# EAGLE library part ESP32-S2-SAOLA-1R (library ESP32-S2-SAOLA-1R)
Check prices <https://pricing.snapeda.com/parts/ESP32-S2-SAOLA-1R/Espressif%20Systems/view-part?ref=eda>
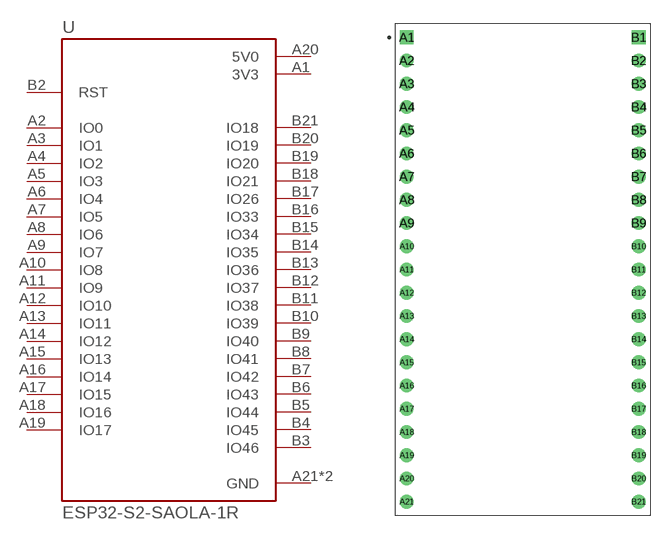
[diagram p0: symbol with the pads of XCVR_ESP32-S2-SAOLA-1R; footprint XCVR_ESP32-S2-SAOLA-1R]

Designator prefix U

## ESP32-S2-SAOLA-1R (Availability: In Stock; Description: ESP32-S2-WROVER-I series Transceiver; 802.11 b/g/n (Wi-Fi, WiFi, WLAN) Evaluation Board; MF: Espressif Systems; MP: ESP32-S2-SAOLA-1R; Package: None; Price: None; Purchase-URL: https://pricing.snapeda.com/search/part/ESP32-S2-SAOLA-1R/?ref=eda)  [XCVR_ESP32-S2-SAOLA-1R]
A1  3V3  pwr
A2  IO0
A3  IO1
A4  IO2
A5  IO3
A6  IO4
A7  IO5
A8  IO6
A9  IO7
A10  IO8
A11  IO9
A12  IO10
A13  IO11
A14  IO12
A15  IO13
A16  IO14
A17  IO15
A18  IO16
A19  IO17
A20  5V0  pwr
A21  GND  pwr
B1  GND  pwr
B2  RST  in
B3  IO46  in
B4  IO45
B5  IO44
B6  IO43
B7  IO42
B8  IO41
B9  IO40
B10  IO39
B11  IO38
B12  IO37
B13  IO36
B14  IO35
B15  IO34
B16  IO33
B17  IO26
B18  IO21
B19  IO20
B20  IO19
B21  IO18

## Footprint XCVR_ESP32-S2-SAOLA-1R (pad centres in mm)
drill 1 square: A1 -12.7,25.4; B1 12.7,25.4
drill 1: A2 -12.7,22.86; A3 -12.7,20.32; A4 -12.7,17.78; A5 -12.7,15.24; A6 -12.7,12.7; A7 -12.7,10.16; A8 -12.7,7.62; A9 -12.7,5.08; A10 -12.7,2.54; A11 -12.7,0; A12 -12.7,-2.54; A13 -12.7,-5.08; A14 -12.7,-7.62; A15 -12.7,-10.16; A16 -12.7,-12.7; A17 -12.7,-15.24; A18 -12.7,-17.78; A19 -12.7,-20.32; A20 -12.7,-22.86; A21 -12.7,-25.4; B2 12.7,22.86; B3 12.7,20.32; B4 12.7,17.78; B5 12.7,15.24; B6 12.7,12.7; B7 12.7,10.16; B8 12.7,7.62; B9 12.7,5.08; B10 12.7,2.54; B11 12.7,0; B12 12.7,-2.54; B13 12.7,-5.08; B14 12.7,-7.62; B15 12.7,-10.16; B16 12.7,-12.7; B17 12.7,-15.24; B18 12.7,-17.78; B19 12.7,-20.32; B20 12.7,-22.86; B21 12.7,-25.4